# Altium integrated library Crystals-oscillators.IntLib: 45 symbols
Pins are listed as number, name and electrical type; pins without a type are passive.

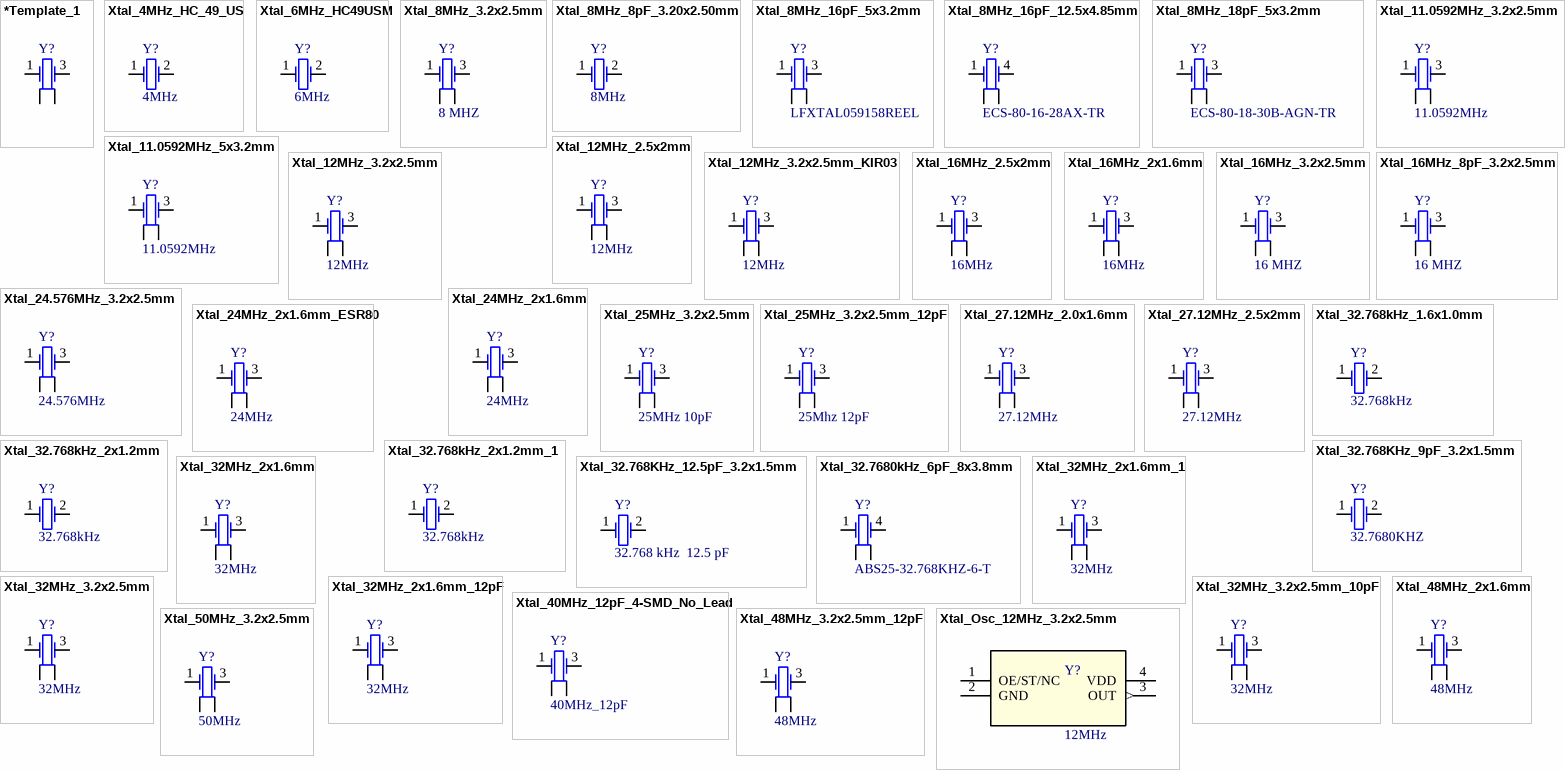
[diagram p0: symbols *Template_1 to Xtal_Osc_12MHz_3.2x2.5mm]

## *Template_1
designator Y?
Reel Stock: N/A
pins: 1, 2, 3, 4

## Xtal_4MHz_HC_49_US
designator Y?, comment 4MHz
CRYSTAL 4.0000MHZ 20PF SMD; Manufacturer: ECS International; Manufacturer Part Number: ECS-40-20-5PVX; Reel Stock: N/A; Last modified by: J.Jaramillo; Last modified date: 20240310; ComponentLink1Description: Digi-Key; ComponentLink1URL: https://www.digikey.com/en/products/detail/ecs-inc/ECS-40-20-5PVX/1693530?s=N4IgTCBcDaIKIGEDKBaALABhWLBWACgGoAaIAugL5A; Supplier 1: Digi-Key; Supplier Part Number 1: XC1590CT-ND
footprint SMD_2_HC_49_US (HC-49-US / 20190312 / H-D.Garcia)
pins: 1, 2

## Xtal_6MHz_HC49USM
designator Y?, comment 6MHz
CRYSTAL 6.0000MHZ 18PF SMD; Manufacturer: ILSI; Manufacturer Part Number: HC49USM-FF3F18-6.000MHZ; Reel Stock: N/A; Last modified by: J.Jaramillo; Last modified date: 20240310; ComponentLink1Description: Digi-Key; ComponentLink1URL: https://www.digikey.com/en/products/detail/ilsi/HC49USM-FF3F18-6-000MHZ/12617866; Supplier 1: Digi-Key; Supplier Part Number 1: 2780-HC49USM-FF3F18-6.000MHZCT-ND
footprint SMD_2_HC_49_US (HC-49-US / 20190312 / H-D.Garcia)
footprint SMD_2_HC_49_US_Hx2.50MM (/20221118/J-A.Sepulveda)
pins: 1, 2

## Xtal_8MHz_3.2x2.5mm
designator Y?, comment 8 MHZ
CRYSTAL 8.0000MHZ 10PF SMD; Manufacturer: TXC CORPORATION; Manufacturer Part Number: 7V-8.000MDDQ-T; Supplier 1: Digi-key; Supplier Part Number 1: 887-7V-8.000MDDQ-TCT-ND; Reel Stock: N/A; Last modified by: J.Jaramillo; Last modified date: 20240310; ComponentLink1Description: Digi-Key; ComponentLink1URL: https://www.digikey.com/en/products/detail/txc-corporation/7V-8-000MDDQ-T/11587500
footprint SMD_4_3.2X2.5mm (/ 20190222 / C-A.Serna.A)
pins: 1, 2, 3, 4

## Xtal_8MHz_8pF_3.20x2.50mm
designator Y?, comment 8MHz
CRYSTAL 8.0000MHZ 8PF SMD; Manufacturer: NDK America, Inc.; Manufacturer Part Number: NX3225GD-8MHZ-STD-CRA-3; Reel Stock: N/A; Last modified by: J.Jaramillo; Last modified date: 20240310; ComponentLink1Description: Digi-Key; ComponentLink1URL: https://www.digikey.com/en/products/detail/ndk-america-inc/NX3225GD-8MHZ-STD-CRA-3/3125637?s=N4IgTCBcDaIHIA0DMYwFYDiARAtADgFkAJALRwGUAVXAYQCUBBHJEAXQF8g; Supplier 1: Digi-Key; Supplier Part Number 1: 644-1178-1-ND
footprint SMD_2_3.20X2.50MM
pins: 1, 2

## Xtal_8MHz_16pF_5x3.2mm
designator Y?, comment LFXTAL059158REEL
CRYSTAL 8.0000MHZ 16PF SMD; Manufacturer: IQD Frequency Products; Manufacturer Part Number: LFXTAL059158REEL; Supplier 1: Digi-Key; Supplier Part Number 1: 1923-1774-1-ND; Reel Stock: N/A; Last modified by: J.Jaramillo; Last modified date: 20240310; ComponentLink1Description: Digi-Key; ComponentLink1URL: https://www.digikey.com/en/products/detail/iqd-frequency-products/LFXTAL059158REEL/10106608
footprint SMD_4_5x3.2mm (/ 20190222 / C-A.Serna.A)
pins: 1, 2, 3, 4

## Xtal_8MHz_16pF_12.5x4.85mm
designator Y?, comment ECS-80-16-28AX-TR
CRYSTAL 8.0000MHZ 16PF SMD; Manufacturer: ECS Inc.; Manufacturer Part Number: ECS-80-16-28AX-TR; Supplier 1: Digi-Key; Supplier Part Number 1: XC1312CT-ND; Reel Stock: N/A; Last modified by: J.Jaramillo; Last modified date: 20240310; ComponentLink1Description: Digi-Key; ComponentLink1URL: https://www.digikey.com/en/products/detail/ecs-inc/ECS-80-16-28AX-TR/827418
footprint HC-49/US_12.5X4.85MM (/20220107/J-E.Pachon)
pins: 1, 2, 3, 4

## Xtal_8MHz_18pF_5x3.2mm
designator Y?, comment ECS-80-18-30B-AGN-TR
CRYSTAL 8.0000MHZ 18PF SMD; Manufacturer: ECS Inc.; Manufacturer Part Number: ECS-80-18-30B-AGN-TR; Supplier 1: Digi-Key; Supplier Part Number 1: XC2709CT-ND; Reel Stock: N/A; Last modified by: J.Jaramillo; Last modified date: 20240310; ComponentLink1Description: Digi-Key; ComponentLink1URL: https://www.digikey.com/en/products/detail/ecs-inc/ECS-80-18-30B-AGN-TR/8023326?s=N4IgTCBcDaIKIGEDKBaAHABhQRjSgzBgEIoCCA4gHIAqASiALoC%2BQA
footprint SMD_4_5x3.2mm (/ 20190222 / C-A.Serna.A)
pins: 1, 2, 3, 4

## Xtal_11.0592MHz_3.2x2.5mm
designator Y?, comment 11.0592MHz
CRYSTAL 11.0592MHZ 12PF SMD; Manufacturer: TXC CORPORATION; Manufacturer Part Number: 7V-11.0592MAAE-T; Supplier 1: Digi-Key; Supplier Part Number 1: 887-7V-11.0592MAAE-TCT-ND; Reel Stock: N/A; Last modified by: J.Jaramillo; Last modified date: 20240310; ComponentLink1Description: Digi-Key; ComponentLink1URL: https://www.digikey.com/en/products/detail/txc-corporation/7V-11-0592MAAE-T/11587645?s=N4IgTCBcDaIOwDUC0BGFA6ADAVgJxgFkBBIgUSQBUQBdAXyA
footprint SMD_4_3.2X2.5mm (/ 20190222 / C-A.Serna.A)
pins: 1, 2, 3, 4

## Xtal_11.0592MHz_5x3.2mm
designator Y?, comment 11.0592MHz
CRYSTAL 11.0592MHZ 18PF SMD; Manufacturer: ECS Inc.; Manufacturer Part Number: ECS-110.5-18-30B-AGN-TR; Supplier 1: Digi-Key; Supplier Part Number 1: XC2674CT-ND; Last modified by: J.Jaramillo; Last modified date: 20240310; ComponentLink1Description: Digi-Key; ComponentLink1URL: https://www.digikey.com/product-detail/en/ecs-inc/ECS-110.5-18-30B-AGN-TR/XC2674CT-ND/8023609; Reel Stock: N/A
footprint SMD_4_5x3.2mm
pins: 1, 2, 3, 4

## Xtal_12MHz_2.5x2mm
designator Y?, comment 12MHz
CRYSTAL 12.00 MHZ 10.0PF SMD; Manufacturer: EPSON; Manufacturer Part Number: FA-20H 12.0000MD30Z-K3; Supplier 1: Digi-Key; Supplier Part Number 1: SER4113CT-ND; Last modified by: J.Jaramillo; Last modified date: 20240310; Reel Stock: N/A; ComponentLink1Description: Digi-Key; ComponentLink1URL: https://www.digikey.com/product-detail/en/epson/FA-20H-12.0000MD30Z-K3/SER4113CT-ND/6217468
footprint SMD_4_2.5x2mm (/ 20190222 / C-A.Serna.A)
pins: 1, 2, 3, 4

## Xtal_12MHz_3.2x2.5mm
designator Y?, comment 12MHz
CRYSTAL 12MHZ 12PF SMD; Manufacturer: ECS Inc.; Manufacturer Part Number: ECS-120-12-33-AGN-TR; Supplier 1: Digi-key; Supplier Part Number 1: XC2611CT-ND; Last modified by: J.Jaramillo; Last modified date: 20240310; ComponentLink1Description: Digi-key; ComponentLink1URL: https://www.digikey.com/products/en?keywords=XC2611CT-ND; Reel Stock: N/A
footprint SMD_4_3.2X2.5mm (Crystal SMD 3.2x2.5mm)
pins: 1, 2, 3, 4

## Xtal_12MHz_3.2x2.5mm_KIR03
designator Y?, comment 12MHz
CRYSTAL 12.0000MHZ 18PF SMD; Manufacturer: CTS-Frequency Controls; Manufacturer Part Number: 403C35D12M00000; Supplier 1: Digi-Key; Supplier Part Number 1: CTX839CT-ND; Reel Stock: N/A; Last modified by: J.Jaramillo; Last modified date: 20240310; ComponentLink1Description: Digi-Key; ComponentLink1URL: https://www.digikey.com/products/en?keywords=CTX839CT-ND
footprint SMD_4_3.2X2.5mm (/ 20190222 / C-A.Serna.A)
pins: 1, 2, 3, 4

## Xtal_16MHz_2.5x2mm
designator Y?, comment 16MHz
CRYSTAL 16.0000MHZ 8PF SMD; Manufacturer: EPSON; Manufacturer Part Number: FA-20H 16.0000MF10Z-AJ0; Last modified by: J.Jaramillo; Last modified date: 20240310; ComponentLink1Description: Digi-key; ComponentLink1URL: https://www.digikey.com/products/en?keywords=SER4068CT-ND; Reel Stock: N/A; Supplier 1: Digi-Key; Supplier Part Number 1: SER4068CT-ND
footprint SMD_4_2.5x2mm
pins: 1, 2, 3, 4

## Xtal_16MHz_2x1.6mm
designator Y?, comment 16MHz
CRYSTAL 16.0000MHZ 8PF SMD; Manufacturer: Kyocera International Inc. Electronic Components; Manufacturer Part Number: CX2016DB16000D0FLNCC; Last modified by: J.Jaramillo; Last modified date: 20240310; ComponentLink1Description: Digi-key; ComponentLink1URL: https://www.digikey.com/en/products/detail/kyocera-international-inc-electronic-components/CX2016DB16000D0FLNCC/10059055; Reel Stock: N/A; Supplier 1: Digi-Key; Supplier Part Number 1: 1253-CX2016DB16000D0FLNCCCT-ND
footprint SMD_4_2x1.6mm (/ 20190222 / C-A.Serna.A)
pins: 1, 2, 3, 4

## Xtal_16MHz_3.2x2.5mm
designator Y?, comment 16 MHZ
CRYSTAL 16.00 MHZ 9PF SMD; Manufacturer: EPSON; Manufacturer Part Number: TSX-3225 16.0000MF09Z-AC0; Supplier 1: Digi-key; Supplier Part Number 1: SER4069CT-ND; Reel Stock: N/A; Last modified by: J.Jaramillo; Last modified date: 20240310; ComponentLink1Description: Digi-Key; ComponentLink1URL: https://www.digikey.com/products/en?keywords=SER4069CT-ND
footprint SMD_4_3.2X2.5mm (/ 20190222 / C-A.Serna.A)
pins: 1, 2, 3, 4

## Xtal_16MHz_8pF_3.2x2.5mm
designator Y?, comment 16 MHZ
CRYSTAL 16.0000MHZ 8PF SMD; Manufacturer: Kyocera International Inc. Electronic Components; Manufacturer Part Number: CX3225SB16000D0GZJC1; Supplier 1: Digi-Key; Supplier Part Number 1: 1253-1698-1-ND; Reel Stock: N/A; Last modified by: J.Jaramillo; Last modified date: 20240310; ComponentLink1Description: Digi-Key; ComponentLink1URL: https://www.digikey.com/en/products/detail/kyocera-international-inc-electronic-components/CX3225SB16000D0GZJC1/5995241?s=N4IgTCBcDaIMIA0DMYwFYDKAhAjANgAYiARAgcQC0ApOHEAXQF8g
footprint SMD_4_3.2X2.5mm (/ 20190222 / C-A.Serna.A)
pins: 1, 2, 3, 4

## Xtal_24.576MHz_3.2x2.5mm
designator Y?, comment 24.576MHz
CRYSTAL 24.5760MHZ 18PF SMD; Manufacturer: Abracon LLC; Manufacturer Part Number: ABM8G-24.576MHZ-18-D2Y-T; Supplier 1: Digi-Key; Supplier Part Number 1: 535-10274-1-ND; Reel Stock: N/A; Last modified by: J.Jaramillo; Last modified date: 20240310; ComponentLink1Description: Digi-Key; ComponentLink1URL: https://www.digikey.com/product-detail/en/abracon-llc/ABM8G-24-576MHZ-18-D2Y-T/535-10274-1-ND/2218087
footprint SMD_4_3.2X2.5mm (/ 20190222 / C-A.Serna.A)
pins: 1, 2, 3, 4

## Xtal_24MHz_2x1.6mm
designator Y?, comment 24MHz
CRYSTAL 24.0000MHZ 6PF SMD; Manufacturer: Murata Electronics North America; Manufacturer Part Number: XRCGB24M000F2P00R0; Supplier 1: Digi-key; Supplier Part Number 1: 490-9762-1-ND; Last modified by: J.Jaramillo; Last modified date: 20240310; ComponentLink1Description: Digi-key; ComponentLink1URL: https://www.digikey.com/en/products/detail/murata-electronics/XRCGB24M000F2P00R0/4951998?s=N4IgTCBcDaICwE4AMBaBB2AbGFBGFAcgCIgC6AvkA; Reel Stock: N/A
footprint SMD_4_2x1.6mm
pins: 1, 2, 3, 4

## Xtal_24MHz_2x1.6mm_ESR80
designator Y?, comment 24MHz
CRYSTAL 24.0000MHZ 6PF SMD; Manufacturer: Murata Electronics North America; Manufacturer Part Number: XRCGB24M000FBP12R0; Supplier 1: Digi-key; Supplier Part Number 1: 490-18297-1-ND; Last modified by: J.Jaramillo; Last modified date: 20240310; ComponentLink1Description: Digi-key; ComponentLink1URL: https://www.digikey.com/en/products/detail/murata-electronics/XRCGB24M000FBP12R0/9959654; Reel Stock: N/A
footprint SMD_4_2x1.6mm
pins: 1, 2, 3, 4

## Xtal_25MHz_3.2x2.5mm
designator Y?, comment 25MHz 10pF
CRYSTAL 25.0000MHZ 10PF SMD; Manufacturer: EPSON; Manufacturer Part Number: FA-238 25.0000MB-K3; Supplier 1: Digi-Key; Supplier Part Number 1: SER3692CT-ND; Reel Stock: N/A; Last modified by: J.Jaramillo; Last modified date: 20240310; ComponentLink1Description: Digi-Key; ComponentLink1URL: https://www.digikey.com/product-detail/en/epson/FA-238-25.0000MB-K3/SER3692CT-ND/2403465
footprint SMD_4_3.2X2.5mm (Crystal SMD 3.2x2.5mm)
pins: 1, 2, 3, 4

## Xtal_25MHz_3.2x2.5mm_12pF
designator Y?, comment 25Mhz 12pF
CRYSTAL 25.0000MHZ 12PF SMD; Manufacturer: EPSON; Manufacturer Part Number: FA-238 25.0000MB-W0; Supplier 1: Digi-Key; Supplier Part Number 1: SER4258CT-ND; Reel Stock: N/A; Last modified by: J.Jaramillo; Last modified date: 20240310; ComponentLink1Description: Digi-Key; ComponentLink1URL: https://www.digikey.com/en/products/detail/epson/FA-238-25-0000MB-W0/5259778
footprint SMD_4_3.2X2.5mm (/ 20190222 / C-A.Serna.A)
pins: 1, 2, 3, 4

## Xtal_27.12MHz_2.0x1.6mm
designator Y?, comment 27.12MHz
CRYSTAL 27.1200MHZ 8PF SMD; Manufacturer: Murata Electronics; Manufacturer Part Number: XRCGB27M120F3M01R0; Supplier 1: Digi-Key; Supplier Part Number 1: 490-18321-1-ND; Last modified by: J.Jaramillo; Last modified date: 20240310; Reel Stock: N/A; ComponentLink1Description: Digi-Key; ComponentLink1URL: https://www.digikey.com/product-detail/en/murata-electronics/XRCGB27M120F3M01R0/490-18321-1-ND/9959783
footprint SMD_4_2x1.6mm
pins: 1, 2, 3, 4

## Xtal_27.12MHz_2.5x2mm
designator Y?, comment 27.12MHz
CRYSTAL 27.12MHZ 10PF SMD; Manufacturer: ECS Inc.; Manufacturer Part Number: ECS-271.2-10-36-AGN-TR; Supplier 1: Digi-Key; Supplier Part Number 1: XC2509CT-ND; Last modified by: J.Jaramillo; Last modified date: 20240310; Reel Stock: N/A; ComponentLink1Description: Digi-Key; ComponentLink1URL: https://www.digikey.com/product-detail/en/ecs-inc/ECS-271.2-10-36-AGN-TR/XC2509CT-ND/8023444
footprint SMD_4_2.5x2mm (/ 20190222 / C-A.Serna.A)
pins: 1, 2, 3, 4

## Xtal_32.768kHz_1.6x1.0mm
designator Y?, comment 32.768kHz
CRYSTAL 32.768KHZ 7.0PF SMD; Manufacturer: Micro Crystal AG; Manufacturer Part Number: CM9V-T1A-32.768KHZ-7PF-100PPM-TA-QC; Supplier 1: Digi-Key; Supplier Part Number 1: 2195-CM9V-T1A-32.768KHZ-7PF-100PPM-TA-QCCT-ND; Reel Stock: N/A; Last modified by: J.Jaramillo; Last modified date: 20240310; ComponentLink1Description: Digi-Key; ComponentLink1URL: https://www.digikey.com/product-detail/en/micro-crystal-ag/CM9V-T1A-32.768KHZ-7PF-100PPM-TA-QC/2195-CM9V-T1A-32.768KHZ-7PF-100PPM-TA-QCCT-ND/10500191
footprint SMD_2_1.6x1.0MM (/ 20191210 / C-D Viveros)
pins: 1, 2

## Xtal_32.768kHz_2x1.2mm
designator Y?, comment 32.768kHz
CRYSTAL 32.7680KHZ 4PF SMD; Manufacturer: Abracon LLC; Manufacturer Part Number: ABS06-107-32.768KHZ-T; Supplier 1: Digi-Key; Supplier Part Number 1: 535-12373-1-ND; Reel Stock: N/A; Last modified by: J.Jaramillo; Last modified date: 20240310; ComponentLink1Description: Digi-Key; ComponentLink1URL: https://www.digikey.com/products/en?keywords=535-12373-1-ND
footprint SMD_2_2X1.20mm
pins: 1, 2

## Xtal_32.768kHz_2x1.2mm_1
designator Y?, comment 32.768kHz
CRYSTAL 32.7680KHZ 12.5PF SMD; Manufacturer: ECS Inc.; Manufacturer Part Number: XC1752CT-ND; Supplier 1: Digi-Key; Supplier Part Number 1: ECS-.327-12.5-12-TR; Reel Stock: N/A; Last modified by: J.Jaramillo; Last modified date: 20240310; ComponentLink1Description: Digi-Key; ComponentLink1URL: https://www.digikey.com/en/products/detail/ecs-inc/ECS-327-12-5-12-TR/2666655
footprint SMD_2_2X1.20mm
pins: 1, 2

## Xtal_32.768KHz_9pF_3.2x1.5mm
designator Y?, comment 32.7680KHZ
CRYSTAL 32.7680KHZ 9PF SMD; Manufacturer: Micro Crystal AG; Manufacturer Part Number: CC7V-T1A-32.768KHZ-9PF-20PPM-TA-QC; Supplier 1: Digi-Key; Supplier Part Number 1: 2195-CC7V-T1A-32.768KHZ-9PF-20PPM-TA-QCCT-ND; Reel Stock: N/A; Last modified by: J.Jaramillo; Last modified date: 20240310; ComponentLink1Description: Digi-Key; ComponentLink1URL: https://www.digikey.com/en/products/detail/micro-crystal-ag/CC7V-T1A-32-768KHZ-9PF-20PPM-TA-QC/10499116
footprint SMD_2_3.2x1.5MM (/20220825/J-A.Sepulveda)
pins: 1, 2

## Xtal_32.768KHz_12.5pF_3.2x1.5mm
designator Y?, comment 32.768 kHz  12.5 pF
CRYSTAL 32.7680KHZ 12.5PF SMD; Manufacturer: EPSON; Manufacturer Part Number: FC-135R 32.7680KA-A0; Supplier 1: Digi-Key; Supplier Part Number 1: 114-FC-135R32.7680KA-A0CT-ND; Reel Stock: N/A; Last modified by: J.Jaramillo; Last modified date: 20240310; ComponentLink1Description: Digi-Key; ComponentLink1URL: https://www.digikey.com/en/products/detail/epson/FC-135R-32-7680KA-A0/5259900?s=N4IgTCBcDaIGIGEC0BGAzAVgEoAI1gDoB2ANgA4AGAaQEEkaKQBdAXyA
footprint SMD_2_3.2x1.5MM (/20220825/J-A.Sepulveda)
pins: 1, 2

## Xtal_32.7680kHz_6pF_8x3.8mm
designator Y?, comment ABS25-32.768KHZ-6-T
CRYSTAL 32.7680KHZ 6PF SMD; Manufacturer: Abracon LLC; Manufacturer Part Number: ABS25-32.768KHZ-6-T; Supplier 1: Digi-Key; Supplier Part Number 1: 535-10240-1-ND; Reel Stock: N/A; Last modified by: J.Jaramillo; Last modified date: 20240310; ComponentLink1Description: Digi-Key; ComponentLink1URL: https://www.digikey.com/en/products/detail/abracon-llc/ABS25-32-768KHZ-6-T/2217986
footprint 4-SOJ_5.5MM (/20220107/J-E.Pachon)
pins: 1, 2, 3, 4

## Xtal_32MHz_2x1.6mm
designator Y?, comment 32MHz
CRYSTAL 32.0000MHZ 8PF SMD; Manufacturer: Kyocera International Inc. Electronic Components; Manufacturer Part Number: CX2016DB32000D0WZRC1; Last modified by: J.Jaramillo; Last modified date: 20240310; ComponentLink1Description: Digi-key; ComponentLink1URL: https://www.digikey.com/products/en?keywords=1253-1586-1-ND; Reel Stock: N/A; Supplier 1: Digi-Key; Supplier Part Number 1: 1253-1586-1-ND
footprint SMD_4_2x1.6mm
pins: 1, 2, 3, 4

## Xtal_32MHz_2x1.6mm_1
designator Y?, comment 32MHz
CRYSTAL 32.0000MHZ 8PF SMD; Manufacturer: EPSON; Manufacturer Part Number: FA-128 32.0000MF10Z-AJ3; Last modified by: J.Jaramillo; Last modified date: 20240310; ComponentLink1Description: Digi-key; ComponentLink1URL: https://www.digikey.com/products/en?keywords=1253-1586-1-ND; Reel Stock: N/A; Supplier 1: Digi-Key; Supplier Part Number 1: SER4233CT-ND
footprint SMD_4_2x1.6mm
pins: 1, 2, 3, 4

## Xtal_32MHz_2x1.6mm_12pF
designator Y?, comment 32MHz
CRYSTAL 32.0000MHZ 12PF SMD; Manufacturer: ECS Inc.; Manufacturer Part Number: ECS-320-12-37-CKM-TR; Last modified by: J.Jaramillo; Last modified date: 20240310; ComponentLink1Description: Digi-key; ComponentLink1URL: https://www.digikey.com/en/products/detail/ecs-inc/ECS-320-12-37-CKM-TR/9597501?s=N4IgTCBcDaIKIGEDKBaAzGADCgjGdA7CggNICyIAugL5A; Reel Stock: N/A; Supplier 1: Digi-Key; Supplier Part Number 1: XC2867CT-ND
footprint SMD_4_2x1.6mm
pins: 1, 2, 3, 4

## Xtal_32MHz_3.2x2.5mm
designator Y?, comment 32MHz
CRYSTAL 32.0000MHZ 18PF SMD; Manufacturer: Abracon LLC; Manufacturer Part Number: ABM8-32.000MHZ-B2-T; Supplier 1: Digi-Key; Reel Stock: N/A; Last modified by: J.Jaramillo; ComponentLink1Description: Digi-Key; ComponentLink1URL: https://www.digikey.com/product-detail/en/abracon-llc/ABM8-32.000MHZ-B2-T/535-9830-1-ND/2001453; Last modified date: 20240310; Supplier Part Number 1: 535-9830-1-ND
footprint SMD_4_3.2X2.5mm (Crystal SMD 3.2x2.5mm)
pins: 1, 2, 3, 4

## Xtal_32MHz_3.2x2.5mm_10pF
designator Y?, comment 32MHz
CRYSTAL 32.0000MHZ 10PF SMD; Manufacturer: CTS-Frequency Controls; Manufacturer Part Number: 403C11A32M00000; Last modified by: J.Jaramillo; Last modified date: 20240310; ComponentLink1Description: Digi-key; ComponentLink1URL: https://www.digikey.com/products/en?keywords=CTX850CT-ND; Reel Stock: N/A; Supplier 1: Digi-Key; Supplier Part Number 1: CTX850CT-ND
footprint SMD_4_3.2X2.5mm (Crystal SMD 3.2x2.5mm)
pins: 1, 2, 3, 4

## Xtal_40MHz_12pF_4-SMD_No_Lead
designator Y?, comment 40MHz_12pF
CRYSTAL 40MHZ, 12PF/7/10/-30+9; Manufacturer: Hosonic Electronic Co., Ltd; Manufacturer Part Number: E2SB40E000104E; Supplier 1: Digi-Key; Supplier Part Number 1: 3186-E2SB40E000104ECT-ND; Reel Stock: N/A; Last modified by: J.Jaramillo; Last modified date: 20240310; ComponentLink1Description: Digi-Key; ComponentLink1URL: https://www.digikey.com/en/products/detail/hosonic-electronic-co-ltd/E2SB40E000104E/13678343?s=N4IgjCBcoMwKxVAYygMwIYBsDOBTANCAPZQDaIAHAOxxgIC6hADgC5QgDKLATgJYB2AcxABfQgCY4MRCBSQMOAsTLgYATgohGIVuy58howmA1qZchXkIlI5AAxaxIcXQfRZaLFeW2QAFjsAAgBZAAkALy1mNkgQAFV%2BXhYAeVRg3HRsAFduXCMQAFpxcygeLKUbcgYRJ2LfAA0WLEcgA
footprint SMD_4_2.5X2mm_ASDK2 (/ 20200812 / M-C.Calderon)
pins: 1, 2, 3, 4

## Xtal_48MHz_2x1.6mm
designator Y?, comment 48MHz
CRYSTAL 48.0000MHZ 6PF SMD; Manufacturer: Murata Electronics North America; Manufacturer Part Number: XRCGB48M000F4M00R0; Supplier 1: Digi-key; Supplier Part Number 1: 490-5588-1-ND; Last modified by: J.Jaramillo; Last modified date: 20240310; ComponentLink1Description: Digi-key; ComponentLink1URL: https://www.digikey.com/products/en?keywords=490-5588-1-ND; Reel Stock: N/A
footprint SMD_4_2x1.6mm
pins: 1, 2, 3, 4

## Xtal_48MHz_3.2x2.5mm_12pF
designator Y?, comment 48MHz
CRYSTAL 48.000 MHZ 12PF SMD; Manufacturer: TXC Corporation; Manufacturer Part Number: 7M48000003; Supplier 1: Poshton; Supplier Part Number 1: 7M48000003; Reel Stock: N/A; Last modified by: J.Jaramillo; Last modified date: 20240310; ComponentLink1Description: Digi-Key; ComponentLink1URL: https://www.digikey.com/en/products/detail/txc-corporation/7M48000003/5954527
footprint SMD_4_3.2X2.5mm (/ 20190222 / C-A.Serna.A)
pins: 1, 2, 3, 4

## Xtal_50MHz_3.2x2.5mm
designator Y?, comment 50MHz
CRYSTAL 50.000 MHZ 10PF SMD; Manufacturer: EPSON; Manufacturer Part Number: FA-238 50.0000MB30X-K3; Supplier 1: Digi-Key; Supplier Part Number 1: SER4117CT-ND; Last modified by: J.Jaramillo; Last modified date: 20240310; ComponentLink1Description: Digi-key; ComponentLink1URL: https://www.digikey.com/products/en?keywords=SER4117CT-ND; Reel Stock: N/A
footprint SMD_4_3.2X2.5mm (Crystal SMD 3.2x2.5mm)
pins: 1, 2, 3, 4

## Xtal_Osc_12MHz_3.2x2.5mm
designator Y?, comment 12MHz
MEMS OSC XO 12.0000MHZ H/LV-CMOS; Manufacturer: SiTime; Manufacturer Part Number: SIT1602BI-22-33E-12.000000; Supplier 1: Digi-Key; Supplier Part Number 1: 1473-SIT1602BI-22-33E-12.000000-ND; Reel Stock: N/A; Last modified by: J.Jaramillo; Last modified date: 20240310; ComponentLink1Description: Digi-Key; ComponentLink1URL: https://www.digikey.com/en/products/detail/sitime/SIT1602BI-22-33E-12-000000/11357180
footprint SMD_4_3.2X2.5mm (/ 20190222 / C-A.Serna.A)
pins: 1 OE/ST/NC, 2 GND (power), 3 OUT (out), 4 VDD (power)

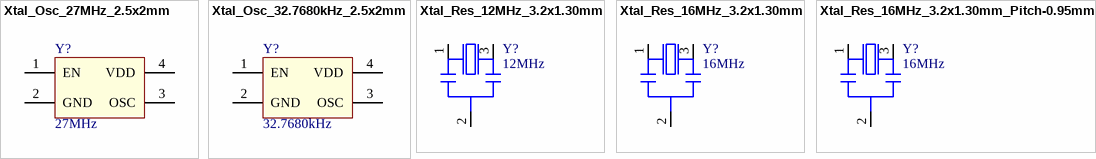
[diagram p1: symbols Xtal_Osc_27MHz_2.5x2mm to Xtal_Res_16MHz_3.2x1.30mm_Pitch-0.95mm]

## Xtal_Osc_27MHz_2.5x2mm
designator Y?, comment 27MHz
XTAL OSC XO 27.0000MHZ CMOS SMD; Manufacturer: Taitien; Manufacturer Part Number: OYETGCJANF-27.000000; Supplier 1: Digi-Key; Supplier Part Number 1: 1664-1130-1-ND; Last modified by: J.Jaramillo; Last modified date: 20240310; Reel Stock: N/A; ComponentLink1Description: Digi-Key; ComponentLink1URL: https://www.digikey.com/products/en?keywords=1664-1130-1-ND
footprint SMD_4_2.5x2mm (/ 20190222 / C-A.Serna.A)
pins: 1 EN, 2 GND, 3 OSC, 4 VDD

## Xtal_Osc_32.7680kHz_2.5x2mm
designator Y?, comment 32.7680kHz
XTAL OSC XO 32.7680KHZ CMOS SMD; Manufacturer: Abracon LLC; Manufacturer Part Number: ASDK2-32.768KHZ-LR-T3; Supplier 1: Digi-Key; Supplier Part Number 1: 535-13597-1-ND; Reel Stock: N/A; Last modified by: J.Jaramillo; Last modified date: 20240310; ComponentLink1Description: Digi-Key; ComponentLink1URL: https://www.digikey.com/products/en?keywords=535-13597-1-ND
footprint SMD_4_2.5X2mm_ASDK2 (/ 20200812 / M-C.Calderon)
pins: 1 EN, 2 GND, 3 OSC, 4 VDD

## Xtal_Res_12MHz_3.2x1.30mm
designator Y?, comment 12MHz
CERAMIC RES 12.0000MHZ 33PF SMD; Manufacturer: Murata Electronics; Manufacturer Part Number: CSTNE12M0G550000R0; Supplier 1: Digi-Key; Supplier Part Number 1: 490-17943-1-ND; Reel Stock: N/A; Last modified by: J.Jaramillo; Last modified date: 20240310; ComponentLink1Description: Digi-Key; ComponentLink1URL: https://www.digikey.com/en/products/detail/murata-electronics/CSTNE12M0G550000R0/8747724
footprint SMD_3_3.2x1.30mm (/ 20210210 / M-C.Calderon)
pins: 1, 2, 3

## Xtal_Res_16MHz_3.2x1.30mm
designator Y?, comment 16MHz
CERAMIC RES 16.0000MHZ 15PF SMD; Manufacturer: Murata Electronics; Manufacturer Part Number: CSTNE16M0V53Z000R0; Supplier 1: Digi-Key; Supplier Part Number 1: 490-17950-1-ND; Reel Stock: N/A; Last modified by: J.Jaramillo; Last modified date: 20240310; ComponentLink1Description: Digi-Key; ComponentLink1URL: https://www.digikey.com/en/products/detail/murata-electronics/CSTNE16M0V53Z000R0/8747731
footprint SMD_3_3.2x1.30mm (/ 20210210 / M-C.Calderon)
pins: 1, 2, 3

## Xtal_Res_16MHz_3.2x1.30mm_Pitch-0.95mm
designator Y?, comment 16MHz
16MHz ±0.5% 15pF 40Ω SMD3213-3P Ceramic Resonators RoHS; Manufacturer: Murata Electronics; Manufacturer Part Number: CSTCE16M0V53Z-R0; Supplier 1: LCSC; Supplier Part Number 1: C91585; Reel Stock: N/A; Last modified by: J.Jaramillo; Last modified date: 20210714; ComponentLink1Description: LCSC; ComponentLink1URL: https://lcsc.com/product-detail/Ceramic-Resonators_Murata-Electronics-CSTCE16M0V53Z-R0_C91585.html
footprint SMD_3_3.2x1.30mm_Pitch-0.95mm (/ 20210714 / C-D Viveros)
pins: 1, 2, 3